# EAGLE library part LUMBERG-2,5MS-10 (library 1A-meinLib)
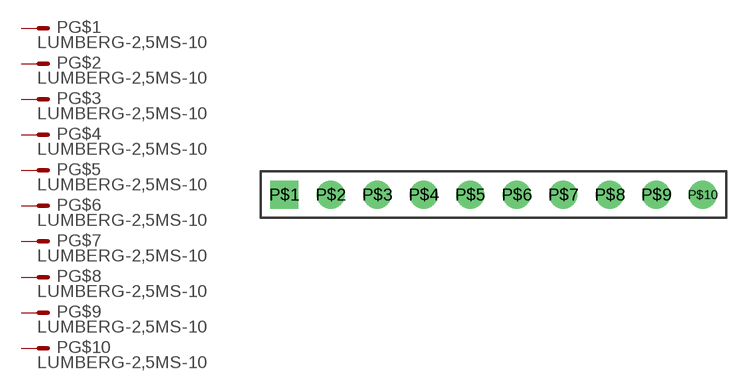
[diagram p250: symbol with the pads of LUMBERG-2,5MS-10; footprint LUMBERG-2,5MS-10]

Designator prefix P; gates G$1=M G$2=M G$3=M G$4=M G$5=M G$6=M G$7=M G$8=M G$9=M G$10=M

## LUMBERG-2,5MS-10  [LUMBERG-2,5MS-10]
P$1  G$1:S  pas
P$2  G$2:S  pas
P$3  G$3:S  pas
P$4  G$4:S  pas
P$5  G$5:S  pas
P$6  G$6:S  pas
P$7  G$7:S  pas
P$8  G$8:S  pas
P$9  G$9:S  pas
P$10  G$10:S  pas

## Footprint LUMBERG-2,5MS-10 (pad centres in mm)
Stiftleiste 2,5MS, 10 polig, LUMBERG
drill 1 square: P$1 -11.43,0
drill 1 round: P$2 -8.89,0; P$3 -6.35,0; P$4 -3.81,0; P$5 -1.27,0; P$6 1.27,0; P$7 3.81,0; P$8 6.35,0; P$9 8.89,0; P$10 11.43,0